# EAGLE library part TNT4882 (library NI_GPIB)
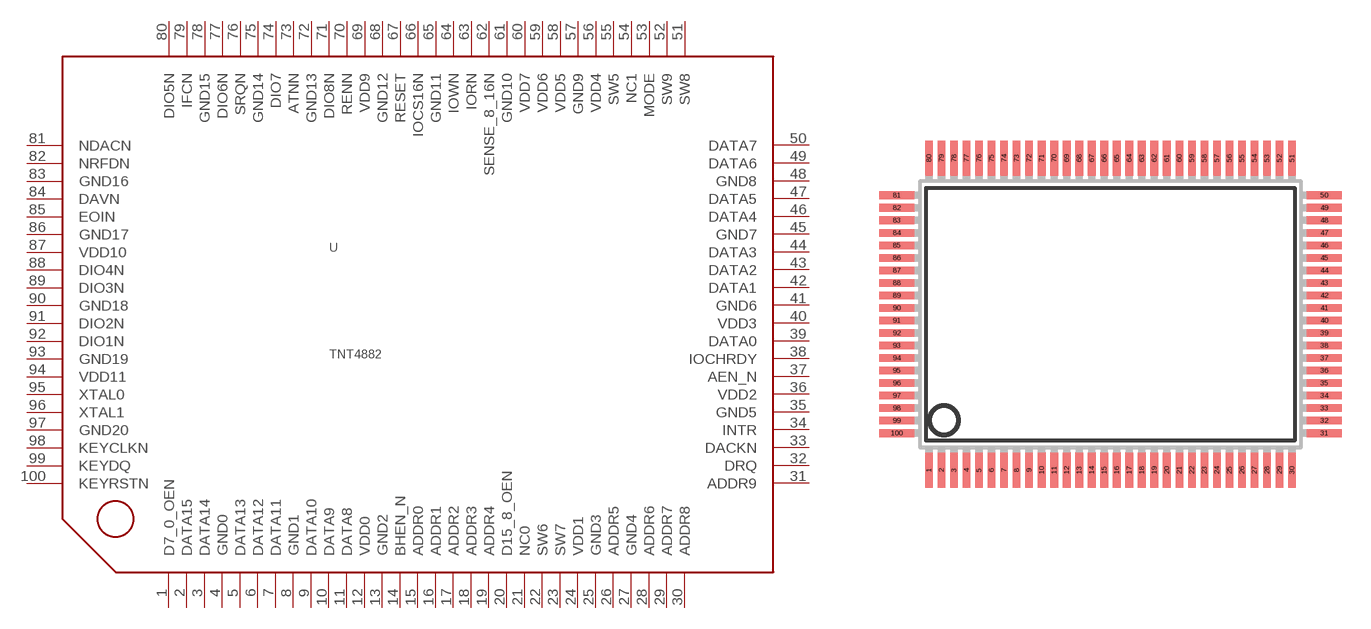
[diagram p0: symbol with the pads of SQFP-R-14X20-100; footprint SQFP-R-14X20-100]

Designator prefix -

## TNT4882  [SQFP-R-14X20-100]
1  D7_0_OEN
2  DATA15
3  DATA14
4  GND0
5  DATA13
6  DATA12
7  DATA11
8  GND1
9  DATA10
10  DATA9
11  DATA8
12  VDD0
13  GND2
14  BHEN_N
15  ADDR0
16  ADDR1
17  ADDR2
18  ADDR3
19  ADDR4
20  D15_8_OEN
21  NC0
22  SW6
23  SW7
24  VDD1
25  GND3
26  ADDR5
27  GND4
28  ADDR6
29  ADDR7
30  ADDR8
31  ADDR9
32  DRQ
33  DACKN
34  INTR
35  GND5
36  VDD2
37  AEN_N
38  IOCHRDY
39  DATA0
40  VDD3
41  GND6
42  DATA1
43  DATA2
44  DATA3
45  GND7
46  DATA4
47  DATA5
48  GND8
49  DATA6
50  DATA7
51  SW8
52  SW9
53  MODE
54  NC1
55  SW5
56  VDD4
57  GND9
58  VDD5
59  VDD6
60  VDD7
61  GND10
62  SENSE_8_16N
63  IORN
64  IOWN
65  GND11
66  IOCS16N
67  RESET
68  GND12
69  VDD9
70  RENN
71  DIO8N
72  GND13
73  ATNN
74  DIO7
75  GND14
76  SRQN
77  DIO6N
78  GND15
79  IFCN
80  DIO5N
81  NDACN
82  NRFDN
83  GND16
84  DAVN
85  EOIN
86  GND17
87  VDD10
88  DIO4N
89  DIO3N
90  GND18
91  DIO2N
92  DIO1N
93  GND19
94  VDD11
95  XTAL0
96  XTAL1
97  GND20
98  KEYCLKN
99  KEYDQ
100  KEYRSTN

## Footprint SQFP-R-14X20-100 (pad centres in mm)
QFP100 shrink quad flat pack, rectangle
smd 0.4 x 1.8: 1 -9.425,-8.1; 2 -8.775,-8.1; 3 -8.125,-8.1; 4 -7.475,-8.1; 5 -6.825,-8.1; 6 -6.175,-8.1; 7 -5.525,-8.1; 8 -4.875,-8.1; 9 -4.225,-8.1; 10 -3.575,-8.1; 11 -2.925,-8.1; 12 -2.275,-8.1; 13 -1.625,-8.1; 14 -0.975,-8.1; 15 -0.325,-8.1; 16 0.325,-8.1; 17 0.975,-8.1; 18 1.625,-8.1; 19 2.275,-8.1; 20 2.925,-8.1; 21 3.575,-8.1; 22 4.225,-8.1; 23 4.875,-8.1; 24 5.525,-8.1; 25 6.175,-8.1; 26 6.825,-8.1; 27 7.475,-8.1; 28 8.125,-8.1; 29 8.775,-8.1; 30 9.425,-8.1; 51 9.425,8.1; 52 8.775,8.1; 53 8.125,8.1; 54 7.475,8.1; 55 6.825,8.1; 56 6.175,8.1; 57 5.525,8.1; 58 4.875,8.1; 59 4.225,8.1; 60 3.575,8.1; 61 2.925,8.1; 62 2.275,8.1; 63 1.625,8.1; 64 0.975,8.1; 65 0.325,8.1; 66 -0.325,8.1; 67 -0.975,8.1; 68 -1.625,8.1; 69 -2.275,8.1; 70 -2.925,8.1; 71 -3.575,8.1; 72 -4.225,8.1; 73 -4.875,8.1; 74 -5.525,8.1; 75 -6.175,8.1; 76 -6.825,8.1; 77 -7.475,8.1; 78 -8.125,8.1; 79 -8.775,8.1; 80 -9.425,8.1
smd 1.8 x 0.4: 31 11.1,-6.175; 32 11.1,-5.525; 33 11.1,-4.875; 34 11.1,-4.225; 35 11.1,-3.575; 36 11.1,-2.925; 37 11.1,-2.275; 38 11.1,-1.625; 39 11.1,-0.975; 40 11.1,-0.325; 41 11.1,0.325; 42 11.1,0.975; 43 11.1,1.625; 44 11.1,2.275; 45 11.1,2.925; 46 11.1,3.575; 47 11.1,4.225; 48 11.1,4.875; 49 11.1,5.525; 50 11.1,6.175; 81 -11.1,6.175; 82 -11.1,5.525; 83 -11.1,4.875; 84 -11.1,4.225; 85 -11.1,3.575; 86 -11.1,2.925; 87 -11.1,2.275; 88 -11.1,1.625; 89 -11.1,0.975; 90 -11.1,0.325; 91 -11.1,-0.325; 92 -11.1,-0.975; 93 -11.1,-1.625; 94 -11.1,-2.275; 95 -11.1,-2.925; 96 -11.1,-3.575; 97 -11.1,-4.225; 98 -11.1,-4.875; 99 -11.1,-5.525; 100 -11.1,-6.175